# Altium integrated library SSOP16.IntLib: 1 symbol
Pins are listed as number, name and electrical type; pins without a type are passive.

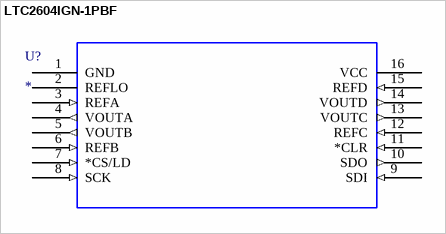
[diagram p0: symbol LTC2604IGN-1PBF]

## LTC2604IGN-1PBF
designator U?
MP: LTC2604IGN-1PBF; Package: None; Price: None; Value: *; Availability: Unavailable
footprint SSOP-16_GN
pins: 1 GND (power), 2 REFLO, 3 REFA (in), 4 VOUTA (out), 5 VOUTB (out), 6 REFB (in), 7 *CS/LD (in), 8 SCK (in), 9 SDI (in), 10 SDO (out), 11 *CLR (in), 12 REFC (in), 13 VOUTC (out), 14 VOUTD (out), 15 REFD (in), 16 VCC (power)